# Altium footprint library Electromechanical.PcbLib: 5 footprints
Each footprint in its own frame and in the unit in brackets; x right, y up, seen from the top. Pads: shape width x height; smd on the part's side, far side on the other; paste and mask are expansions set on the pad; w line width, h text height; cw(c..) or ccw(c..) is an arc to the next point about the centre after c.
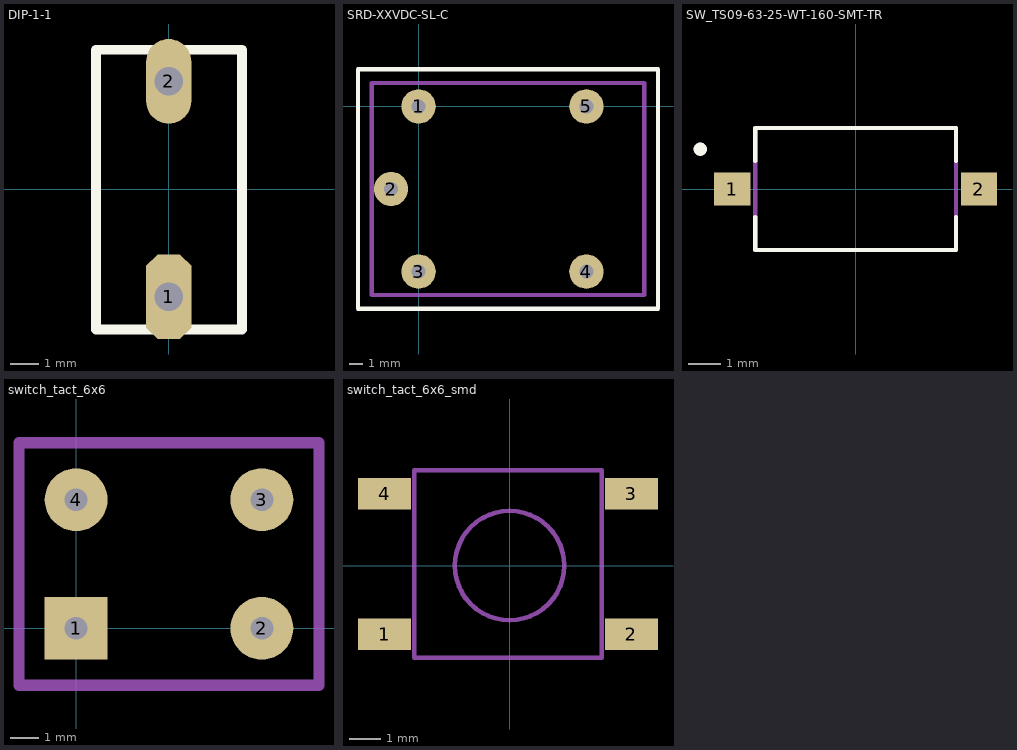
[diagram p0: the footprints below, top view; thin cyan lines are the x and y axes]

## DIP-1-1 [mm] "Used for the  / KLS7-DS-01-R-00"
pads (2):
  oct 1.6x3 hole 1: 1(0,-3.8)
  oval 1.6x3 hole 1: 2(0,3.82)
Top Overlay:
  lines w0.35: -2.58,-4.96 2.6,-4.96 2.6,4.94 -2.58,4.94 -2.58,-4.96
3D body: height 6.9, standoff 0, extent -2.6,-5.03 2.6,4.9

## SRD-XXVDC-SL-C [mm] "SRD-XXVDC-SL-C relay where / XX - coil voltage"
pads (5):
  round 2.5 hole 1: 1(0,0) 2(-2,-6) 3(0,-12) 4(12.2,-12) 5(12.2,0)
Top Overlay:
  lines w0.3: -4.4,-14.7 17.4,-14.7 17.4,2.7 -4.4,2.7 -4.4,-14.7
Mechanical 13:
  lines w0.3: -3.4,-13.7 16.4,-13.7 16.4,1.7 -3.4,1.7 -3.4,-13.7

## SW_TS09-63-25-WT-160-SMT-TR [mm]
height 2.5
pads (2):
  rect 1.1x1 smd: 1(-3.75,0) 2(3.75,0)
Top Overlay:
  circle w0.2: c-4.72,1.21 r0.1
  lines w0.127: -3.05,-0.85 -3.05,-1.85 3.05,-1.85 3.05,-0.85 ; -3.05,0.85 -3.05,1.85 3.05,1.85 3.05,0.85
Mechanical 13:
  circle w0.2: c-4.72,1.21 r0.1
  lines w0.127: -3.05,-1.85 -3.05,1.85 3.05,1.85 3.05,-1.85 -3.05,-1.85
3D body "step_temp.STEP": height 2.5, standoff -0.05, extent -4.05,-1.85 4.05,1.85

## switch_tact_6x6 [mm]
pads (4):
  rect 2.2x2.2 hole 0.8: 1(0,0)
  round 2.2 hole 0.8: 2(6.5,0) 3(6.5,4.5) 4(0,4.5)
Mechanical 13:
  lines w0.4: -2,-2 8.5,-2 8.5,6.5 -2,6.5 -2,-2

## switch_tact_6x6_smd [mm]
pads (4):
  rect 1.7x1 smd: 1(-4,-2.2) 2(3.9,-2.2) 3(3.9,2.3) 4(-4,2.3)
Mechanical 13:
  circle w0.15: c0,0 r1.75
  lines w0.15: -3.05,-2.95 2.95,-2.95 2.95,3.05 -3.05,3.05 -3.05,-2.95
3D body "tact switch SMD 6x6 mm x 4,5mm.step": height 4.6, standoff 0, extent -4.625,-2.95 4.575,3.05